# Altium footprint library QFN3x3-20.PcbLib: 1 footprints
Each footprint in its own frame and in the unit in brackets; x right, y up, seen from the top. Pads: shape width x height; smd on the part's side, far side on the other; paste and mask are expansions set on the pad; w line width, h text height; cw(c..) or ccw(c..) is an arc to the next point about the centre after c.
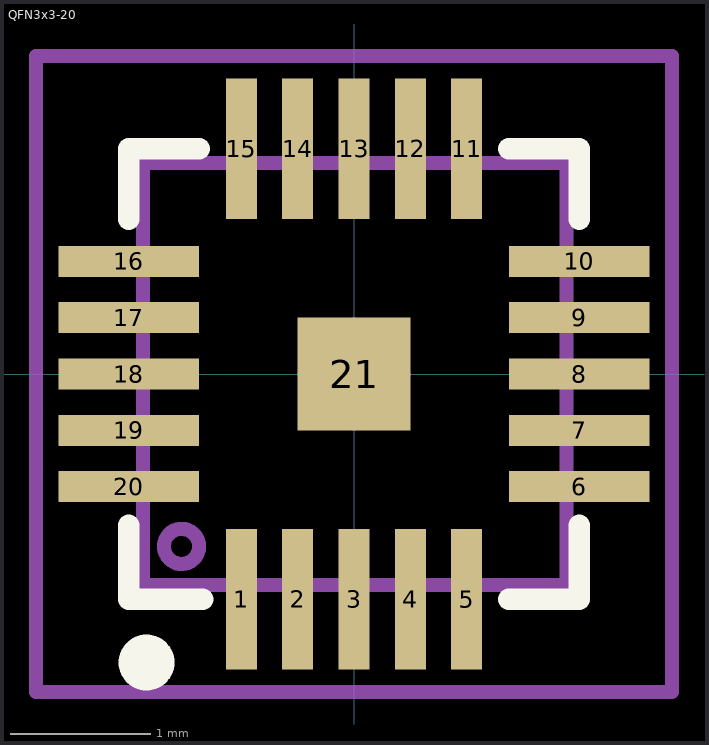
[diagram p0: the footprint, top view; thin cyan lines are the x and y axes]

## QFN3x3-20 [mm]
pads (21):
  rect 0.22x1 smd: 1(-0.8,-1.6) 2(-0.4,-1.6) 3(0,-1.6) 4(0.4,-1.6) 5(0.8,-1.6) 11(0.8,1.6) 12(0.4,1.6) 13(0,1.6) 14(-0.4,1.6) 15(-0.8,1.6)
  rect 1x0.22 smd: 6(1.6,-0.8) 7(1.6,-0.4) 8(1.6,0) 9(1.6,0.4) 10(1.6,0.8) 16(-1.6,0.8) 17(-1.6,0.4) 18(-1.6,0) 19(-1.6,-0.4) 20(-1.6,-0.8)
  rect 0.8x0.8 smd: 21(0,0)
Top Overlay:
  circle w0.25: c-1.474,-2.05 r0.073
  lines w0.152: -1.6,-1.075 -1.6,-1.6 -1.075,-1.6 ; -1.6,1.1 -1.6,1.6 -1.1,1.6 ; 1.1,-1.6 1.6,-1.6 1.6,-1.075 ; 1.1,1.6 1.6,1.6 1.6,1.1
Top Designator:
  text ".Designator" at -7.618,-0.406 h1.52
Top 3D Body:
  circle w0.1: c-1.225,-1.225 r0.125
  lines w0.1: -1.5,-1.5 -1.5,1.5 1.51,1.5 1.51,-1.5 -1.5,-1.5
Top Courtyard:
  lines w0.1: -2.261,-2.261 2.261,-2.261 2.261,2.261 -2.261,2.261 -2.261,-2.261
Top Component Center:
  lines w0.1: -0.353,0 0.353,0 ; 0,-0.353 0,0.353
3D body "QFN20 3x3.STEP": height 0.75, standoff 0, extent -1.51,-1.51 1.51,1.51